# Altium schematic symbol library PD_sym.SchLib: 4 symbols
Pins are listed as number, name and electrical type; pins without a type are passive.

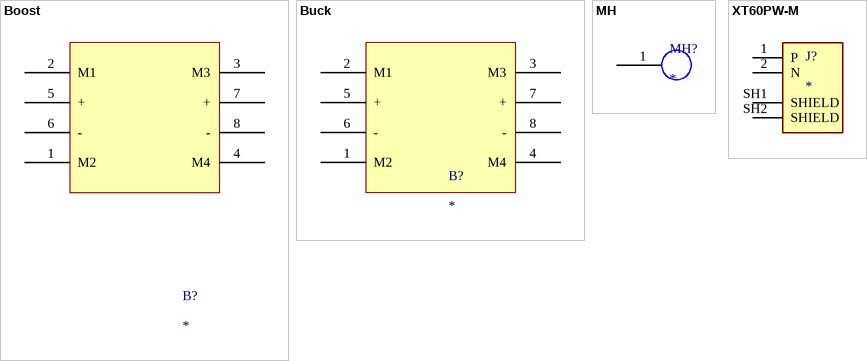
[diagram p0: symbols Boost to XT60PW-M]

## Boost
designator B?
footprint Boost
pins: 1 M2, 2 M1, 3 M3, 4 M4, 5 +, 6 -, 7 +, 8 -

## Buck
designator B?
footprint Buck
pins: 1 M2, 2 M1, 3 M3, 4 M4, 5 +, 6 -, 7 +, 8 -

## MH
designator MH?
footprint MH
pins: 1

## XT60PW-M
designator J?
Socket, DC supply, male, PIN: 2; MF: AMASS; MP: XT60PW-M; SnapEDA_Link: https://www.snapeda.com/parts/XT60PW-M/AMASS/view-part/?ref=snap; Package: Package; Value: *; Check_prices: https://www.snapeda.com/parts/XT60PW-M/AMASS/view-part/?ref=eda
footprint AMASS_XT60PW-M
pins: 1 P, 2 N, SH1 SHIELD, SH2 SHIELD